# EAGLE library part ULTIMAX_EXPANSIONPORT-CONN (library commodore)
expansion port for the UltiMax, connector version
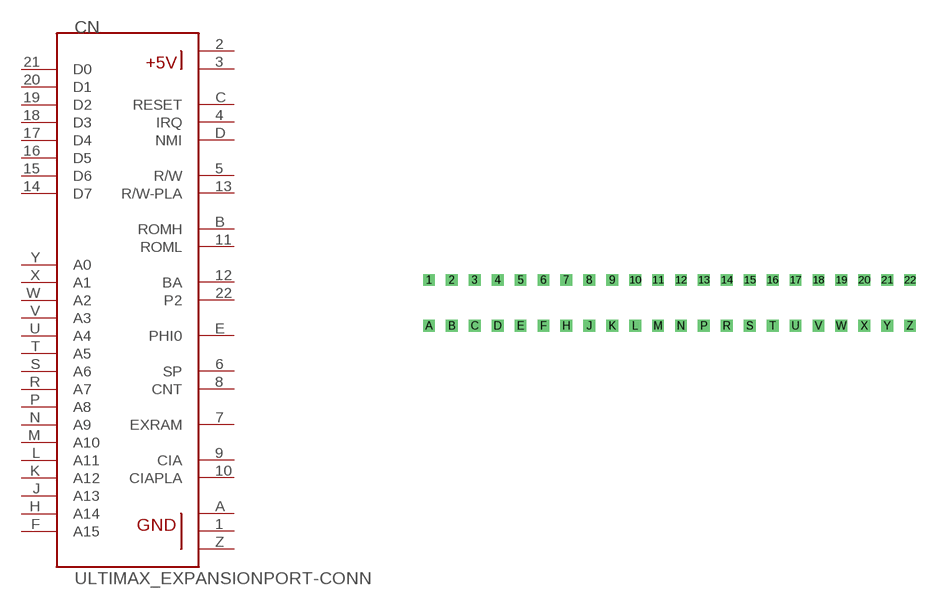
[diagram p51: symbol with the pads of EXPANSIONPORT; footprint EXPANSIONPORT]

Designator prefix CN

## ULTIMAX_EXPANSIONPORT-CONN  [EXPANSIONPORT]
1  GND3  pas
2  +5V1  pas
3  +5V2  pas
4  IRQ  pas
5  R/W  pas
6  SP  pas
7  EXRAM  pas
8  CNT  pas
9  CIA  pas
10  CIAPLA  pas
11  ROML  pas
12  BA  pas
13  R/W-PLA  pas
14  D7  pas
15  D6  pas
16  D5  pas
17  D4  pas
18  D3  pas
19  D2  pas
20  D1  pas
21  D0  pas
22  P2  pas
A  GND2  pas
B  ROMH  pas
C  RESET  pas
D  NMI  pas
E  PHI0  pas
F  A15  pas
H  A14  pas
J  A13  pas
K  A12  pas
L  A11  pas
M  A10  pas
N  A9  pas
P  A8  pas
R  A7  pas
S  A6  pas
T  A5  pas
U  A4  pas
V  A3  pas
W  A2  pas
X  A1  pas
Y  A0  pas
Z  GND4  pas

## Footprint EXPANSIONPORT (pad centres in mm)
drill 0.8 square: 1 -26.67,2.54; 2 -24.13,2.54; 3 -21.59,2.54; 4 -19.05,2.54; 5 -16.51,2.54; 6 -13.97,2.54; 7 -11.43,2.54; 8 -8.89,2.54; 9 -6.35,2.54; 10 -3.81,2.54; 11 -1.27,2.54; 12 1.27,2.54; 13 3.81,2.54; 14 6.35,2.54; 15 8.89,2.54; 16 11.43,2.54; 17 13.97,2.54; 18 16.51,2.54; 19 19.05,2.54; 20 21.59,2.54; 21 24.13,2.54; 22 26.67,2.54; A -26.67,-2.54; B -24.13,-2.54; C -21.59,-2.54; D -19.05,-2.54; E -16.51,-2.54; F -13.97,-2.54; H -11.43,-2.54; J -8.89,-2.54; K -6.35,-2.54; L -3.81,-2.54; M -1.27,-2.54; N 1.27,-2.54; P 3.81,-2.54; R 6.35,-2.54; S 8.89,-2.54; T 11.43,-2.54; U 13.97,-2.54; V 16.51,-2.54; W 19.05,-2.54; X 21.59,-2.54; Y 24.13,-2.54; Z 26.67,-2.54